# Altium footprint library IMX6.PcbLib: 43 footprints (part 3 of 3)
Each footprint in its own frame and in the unit in brackets; x right, y up, seen from the top. Pads: shape width x height; smd on the part's side, far side on the other; paste and mask are expansions set on the pad; w line width, h text height; cw(c..) or ccw(c..) is an arc to the next point about the centre after c.
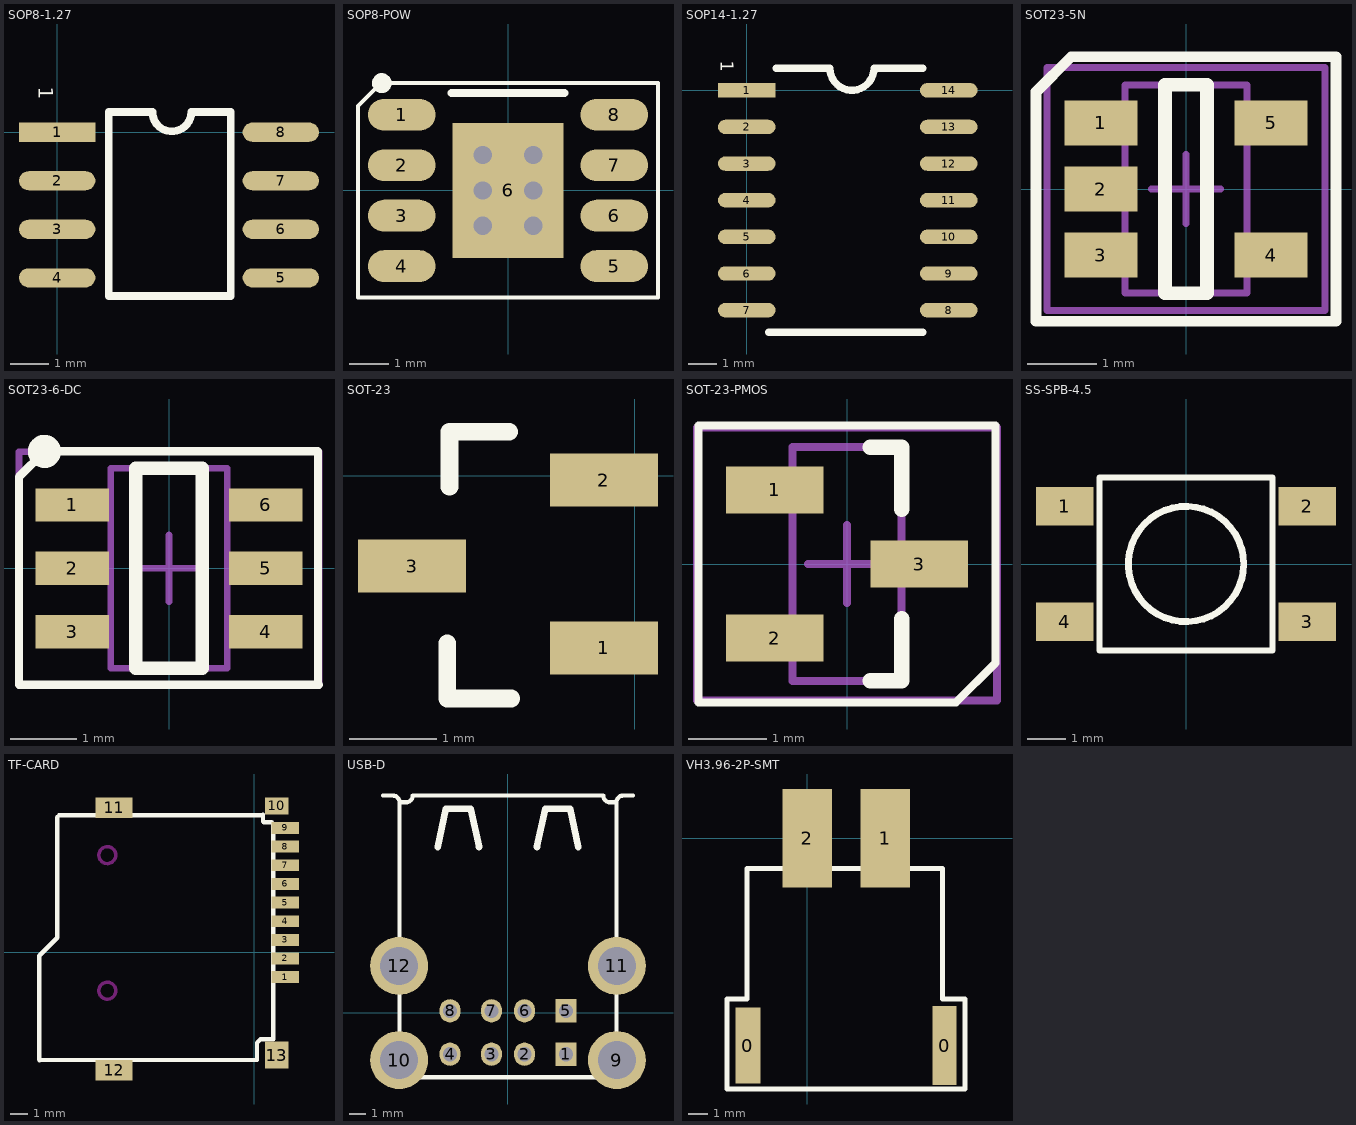
[diagram p2: the footprints below, top view; thin cyan lines are the x and y axes]

## SOP8-1.27 [mm]
pads (8):
  rect 2x0.5 smd: 1(0,0)
  oval 2x0.5 smd: 2(0,-1.27) 3(0,-2.54) 4(0,-3.81) 5(5.85,-3.81) 6(5.85,-2.54) 7(5.85,-1.27) 8(5.85,0)
Top Overlay:
  lines w0.203: 2.471,0.529 1.346,0.529 1.346,-4.289 4.539,-4.289 4.539,0.529 3.508,0.529 cw(c3,0.529) 2.492,0.529
  text "1" at -0.608,1.188 h0.65

## SOP8-POW [mm]
pads (9):
  oval 1.7x0.8 smd: 1(-2.675,1.905) 2(-2.675,0.635) 3(-2.675,-0.635) 4(-2.675,-1.905) 5(2.675,-1.905) 6(2.675,-0.635) 7(2.675,0.635) 8(2.675,1.905)
  rect 2.8x3.4 smd: 6(0,0)
via 0.635,-0.889 diameter 0.559 hole 0.457
via -0.635,-0.889 diameter 0.559 hole 0.457
via 0.635,0 diameter 0.559 hole 0.457
via -0.635,0 diameter 0.559 hole 0.457
via 0.635,0.889 diameter 0.559 hole 0.457
via -0.635,0.889 diameter 0.559 hole 0.457
Top Overlay:
  circle w0.25: c-3.175,2.7 r0.125
  lines w0.1: -3.775,-2.7 3.775,-2.7 3.775,2.7 -3.2,2.7 -3.775,2.125 -3.775,-2.7
  lines w0.2: -1.425,2.45 1.425,2.45
Mechanical 15:
  lines w0.1: -0.5,0 0.5,0 ; 0,-0.5 0,0.5

## SOP14-1.27 [mm]
pads (14):
  rect 2x0.5 smd: 1(0,0)
  oval 2x0.5 smd: 2(0,-1.27) 3(0,-2.54) 4(0,-3.81) 5(0,-5.08) 6(0,-6.35) 7(0,-7.62) 8(7,-7.62) 9(7,-6.35) 10(7,-5.08) 11(7,-3.81) 12(7,-2.54) 13(7,-1.27) 14(7,0)
Top Overlay:
  lines w0.254: 0.762,-8.382 1.905,-8.382 5.461,-8.382 6.096,-8.382 ; 1.016,0.762 1.905,0.762 ; 1.865,0.762 2.881,0.762 ccw(c3.643,0.762) 4.405,0.762 5.421,0.762 ; 5.461,0.762 6.096,0.762
  text "1" at -1.056,1.016 h0.76

## SOT23-5N [mm]
pads (5):
  rect 1.05x0.65 smd: 1(-1.225,0.95) 2(-1.225,0) 3(-1.225,-0.95) 4(1.225,-0.95) 5(1.225,0.95)
Top Overlay:
  lines w0.152: -2.159,-1.905 2.159,-1.905 2.159,1.905 -1.651,1.905 -2.159,1.397 -2.159,-1.905
  lines w0.2: -0.3,-1.5 -0.3,1.5 0.3,1.5 0.3,-1.5 -0.3,-1.5
Mechanical 13:
  lines w0.1: -0.875,-1.5 0.875,-1.5 0.875,1.5 -0.875,1.5 -0.875,-1.5
Mechanical 15:
  lines w0.1: -0.5,0 0.5,0 ; 0,-0.5 0,0.5 ; -2,-1.75 2,-1.75 2,1.75 -2,1.75 -2,-1.75
3D body: height 1.1, standoff 0.05, extent -0.875,-1.5 0.875,1.5

## SOT23-6-DC [mm]
pads (6):
  rect 1.1x0.5 smd: 1(-1.45,0.95) 2(-1.45,0) 3(-1.45,-0.95) 4(1.45,-0.95) 5(1.45,0) 6(1.45,0.95)
Top Overlay:
  circle w0.25: c-1.869,1.753 r0.125
  lines w0.127: -2.25,-1.75 -2.25,1.372 -1.869,1.753 2.233,1.753 2.235,1.75 2.235,-1.735 2.25,-1.75 -2.25,-1.75
  lines w0.2: -0.5,-1.5 0.5,-1.5 0.5,1.5 -0.5,1.5 -0.5,-1.5
Mechanical 13:
  lines w0.1: -0.875,-1.5 -0.875,1.5 0.875,1.5 0.875,-1.5 -0.875,-1.5
Mechanical 15:
  lines w0.1: -0.5,0 0.5,0 ; 0,-0.5 0,0.5 ; -2.25,-1.75 -2.25,1.75 2.25,1.75 2.25,-1.75 -2.25,-1.75
3D body: height 1.1, standoff 0.05, extent -0.875,-1.5 0.875,1.5

## SOT-23 [mil]
pads (3):
  rect 49x24 smd: 1(-14.05,-78.06) 2(-14.05,-2.06) 3(-101.05,-41.06)
Top Overlay:
  lines w8: -85.05,-76.06 -85.05,-101.06 -56.05,-101.06 ; -84.05,-5.06 -84.05,18.94 ; -84.05,19.94 -57.05,19.94

## SOT-23-PMOS [mm]
pads (3):
  rect 1.25x0.6 smd: 1(-0.925,0.95) 2(-0.925,-0.95) 3(0.925,0)
Top Overlay:
  lines w0.1: -1.905,-1.778 1.397,-1.778 1.905,-1.27 1.905,1.778 -1.905,1.778 -1.905,-1.778
  lines w0.2: 0.3,-1.5 0.7,-1.5 0.7,-0.7 ; 0.3,1.5 0.7,1.5 0.7,0.7
Mechanical 13:
  lines w0.1: -0.7,-1.5 0.7,-1.5 0.7,1.5 -0.7,1.5 -0.7,-1.5
Mechanical 15:
  lines w0.1: -0.5,0 0.5,0 ; 0,-0.5 0,0.5 ; -1.925,-1.75 1.925,-1.75 1.925,1.75 -1.925,1.75 -1.925,-1.75
3D body: height 1.1, standoff 0.05, extent -0.7,-1.5 0.7,1.5

## SS-SPB-4.5 [mm]
pads (4):
  rect 1.5x1 smd: 1(-3.15,1.5) 2(3.15,1.5) 3(3.15,-1.5) 4(-3.15,-1.5)
Top Overlay:
  circle w0.178: c0,0 r1.5
  lines w0.152: -2.25,-2.25 2.25,-2.25 2.25,2.25 -2.25,2.25 -2.25,-2.25

## TF-CARD [mm]
pads (13):
  rect 1.6x0.7 smd: 1(1.82,-1.466) 2(1.82,-0.366) 3(1.82,0.734) 4(1.82,1.834) 5(1.82,2.934) 6(1.82,4.034) 7(1.82,5.134) 8(1.82,6.234) 9(1.82,7.334)
  rect 1.4x1 smd: 10(1.32,8.634)
  rect 2.2x1.2 smd: 11(-8.28,8.534) 12(-8.28,-6.966)
  rect 1.4x1.6 smd: 13(1.32,-6.066)
Top Overlay:
  lines w0.254: -12.7,-6.346 -12.7,-0.203 -11.633,0.864 -11.633,7.976 -11.532,8.077 0.457,8.077 0.508,8.128 0.508,7.722 0.559,7.671 1.016,7.671 1.118,7.569 1.118,-5.131 0.356,-5.131 0.152,-5.334 0.152,-6.35 -12.68,-6.366
Keep-Out Layer:
  circle w0.203: c-8.68,-2.266 r0.5
  circle w0.203: c-8.68,5.734 r0.5

## USB-D [mm]
pads (12):
  rect 1.27x1.4 hole 0.85: 1(3.5,-2.49) 5(3.5,0.13)
  oval 1.27x1.4 hole 0.85: 2(1,-2.49) 3(-1,-2.49) 4(-3.5,-2.49) 6(1,0.13) 7(-1,0.13) 8(-3.5,0.13)
  round 3.5 hole 2.3: 9(6.57,-2.84) 10(-6.57,-2.84) 11(6.57,2.84) 12(-6.57,2.84)
Top Overlay:
  lines w0.254: -7.55,13.12 -6.95,13.12 cw(c-6.95,12.72) -6.55,12.72 ; -6.55,-3.88 -6.55,12.72 ; -6.5,-3.88 6.6,-3.88 ; 6.55,-3.88 6.55,12.72 ; 6.85,13.12 7.55,13.12 ; 6.95,13.12 ccw(c6.95,12.72) 6.55,12.72 ; -6.55,12.72 -6.15,12.72 ccw(c-6.15,13.12) -5.75,13.12 5.75,13.12 ccw(c6.15,13.12) 6.15,12.72 6.55,12.72
  lines w0.4: -4.25,10.02 -3.75,12.32 -2.25,12.32 -1.75,10.02 ; 1.75,10.02 2.25,12.32 3.75,12.32 4.25,10.02

## VH3.96-2P-SMT [mm]
pads (4):
  rect 1.25x3.85 smd: 0(-3,-10.5)
  rect 1.2x4 smd: 0(6.96,-10.5)
  rect 2.5x5 smd: 1(3.96,0) 2(0,0)
Top Overlay:
  lines w0.254: 5.842,-12.7 8.001,-12.7 8.001,-8.128 6.858,-8.128 6.858,-1.524 -3.048,-1.524 -3.048,-8.128 -4.064,-8.128 -4.064,-12.7 -2.413,-12.7 6.096,-12.7